# Altium footprint library ESP32-WROVER-B.PcbLib: 1 footprints
Each footprint in its own frame and in the unit in brackets; x right, y up, seen from the top. Pads: shape width x height; smd on the part's side, far side on the other; paste and mask are expansions set on the pad; w line width, h text height; cw(c..) or ccw(c..) is an arc to the next point about the centre after c.
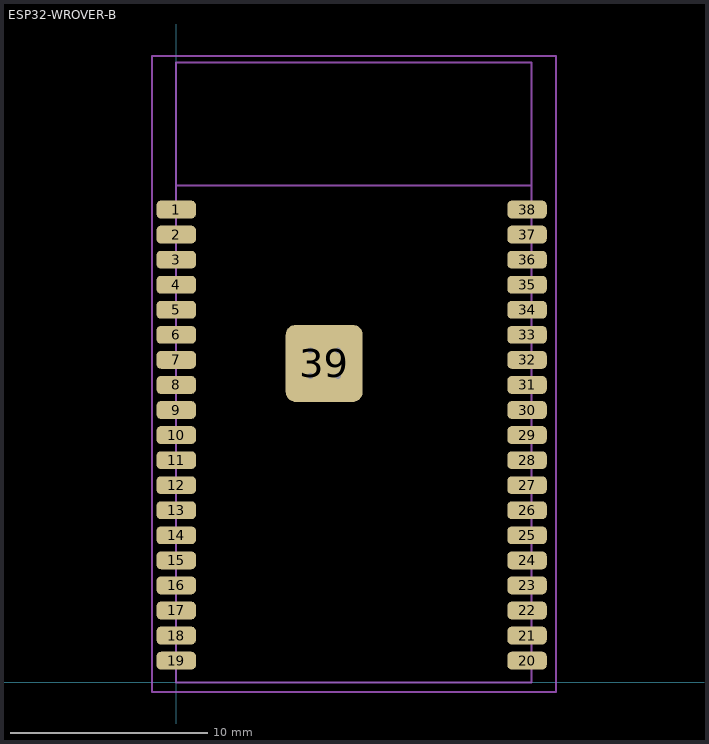
[diagram p0: the footprint, top view; thin cyan lines are the x and y axes]

## ESP32-WROVER-B [mm]
pads (39):
  rrect50% 2x0.9 smd mask+0.05: 1(0,23.96) 2(0,22.69) 3(0,21.42) 4(0,20.15) 5(0,18.88) 6(0,17.61) 7(0,16.34) 8(0,15.07) 9(0,13.8) 10(0,12.53) 11(0,11.26) 12(0,9.99) 13(0,8.72) 14(0,7.45) 15(0,6.18) 16(0,4.91) 17(0,3.64) 18(0,2.37) 19(0,1.1) 20(17.78,1.1) 21(17.78,2.37) 22(17.78,3.64) 23(17.78,4.91) 24(17.78,6.18) 25(17.78,7.45) 26(17.78,8.72) 27(17.78,9.99) 28(17.78,11.26) 29(17.78,12.53) 30(17.78,13.8) 31(17.78,15.07) 32(17.78,16.34) 33(17.78,17.61) 34(17.78,18.88) 35(17.78,20.15) 36(17.78,21.42) 37(17.78,22.69) 38(17.78,23.96)
  rrect25% 3.9x3.9 smd paste-10 mask+0.05: 39(7.5,16.16)
via 8.2,15.525 diameter 0.6 hole 0.3
via 8.2,16.825 diameter 0.6 hole 0.3
via 6.8,15.525 diameter 0.6 hole 0.3
via 6.8,16.825 diameter 0.6 hole 0.3
Top Paste:
  rectangle: 7.05,14.425 7.95,15.325
  rectangle: 8.45,14.425 9.35,15.325
  rectangle: 7.05,15.725 7.95,16.625
  rectangle: 8.45,15.725 9.35,16.625
  rectangle: 5.65,14.425 6.55,15.325
  rectangle: 5.65,15.725 6.55,16.625
  rectangle: 7.05,17.025 7.95,17.925
  rectangle: 8.45,17.025 9.35,17.925
  rectangle: 5.65,17.025 6.55,17.925
Top Assembly:
  lines w0.1: 0,25.175 18,25.175 ; 0,0 18,0 18,31.4 0,31.4 0,0
Top Courtyard:
  lines w0.1: -1.227,-0.5 -1.227,31.75 19.25,31.75 19.25,-0.5 -1.227,-0.5
3D body "ESP32-WROVER-B (16MB)--3DModel-STEP-1.STEP": height 3.4, standoff 0, extent 0,0 18,31.4